# EAGLE library part SPI_FLASH-X25XX (library SparkFun-IC-Memory)
32M Serial Flash Memory 8pin SPI Flash series x25xx. Works with devices like W25X32 and BR25L32 Datasheet <http://www.macronix.com/Lists/Datasheet/Attachments/5031/MX25L3206E,%203V,%2032Mb,%20v1.5.pdf> SparkFun Products SparkFun Venus GPS Logger <https://www.sparkfun.com/products/10920> (GPS-10920)
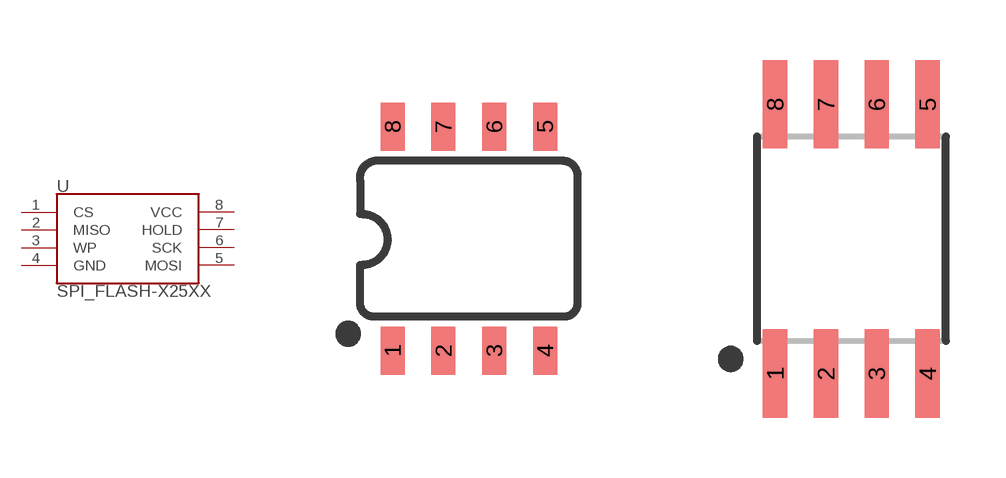
[diagram p1: symbol with the pads of SO08; footprints SO08, SO08-EIAJ]

Designator prefix U

## SPI_FLASH-X25XXSMD (PROD_ID: N/A; VALUE: 32M SPI Flash)  [SO08]
1  CS
2  MISO
3  WP
4  GND  pwr
5  MOSI
6  SCK
7  HOLD
8  VCC  pwr

## SPI_FLASH-X25XXSMD1 (PROD_ID: IC-09109; VALUE: 25F32006WSOI)  [SO08-EIAJ]
Pads as for SO08

## Footprint SO08 (pad centres in mm)
SOIC, 0.15 inch width
smd 0.6 x 1.2: 1 -1.905,-2.8; 2 -0.635,-2.8; 3 0.635,-2.8; 4 1.905,-2.8; 5 1.905,2.8; 6 0.635,2.8; 7 -0.635,2.8; 8 -1.905,2.8

## Footprint SO08-EIAJ (pad centres in mm)
Fits EIAJ packages (wide version of the SOIC-8).
smd 0.61 x 2.21: 1 -1.905,-3.378; 2 -0.635,-3.378; 3 0.635,-3.378; 4 1.905,-3.378; 5 1.905,3.353; 6 0.635,3.353; 7 -0.635,3.353; 8 -1.905,3.353